# Altium schematic symbol library voltage_ref.SchLib: 25 symbols
Pins are listed as number, name and electrical type; pins without a type are passive.

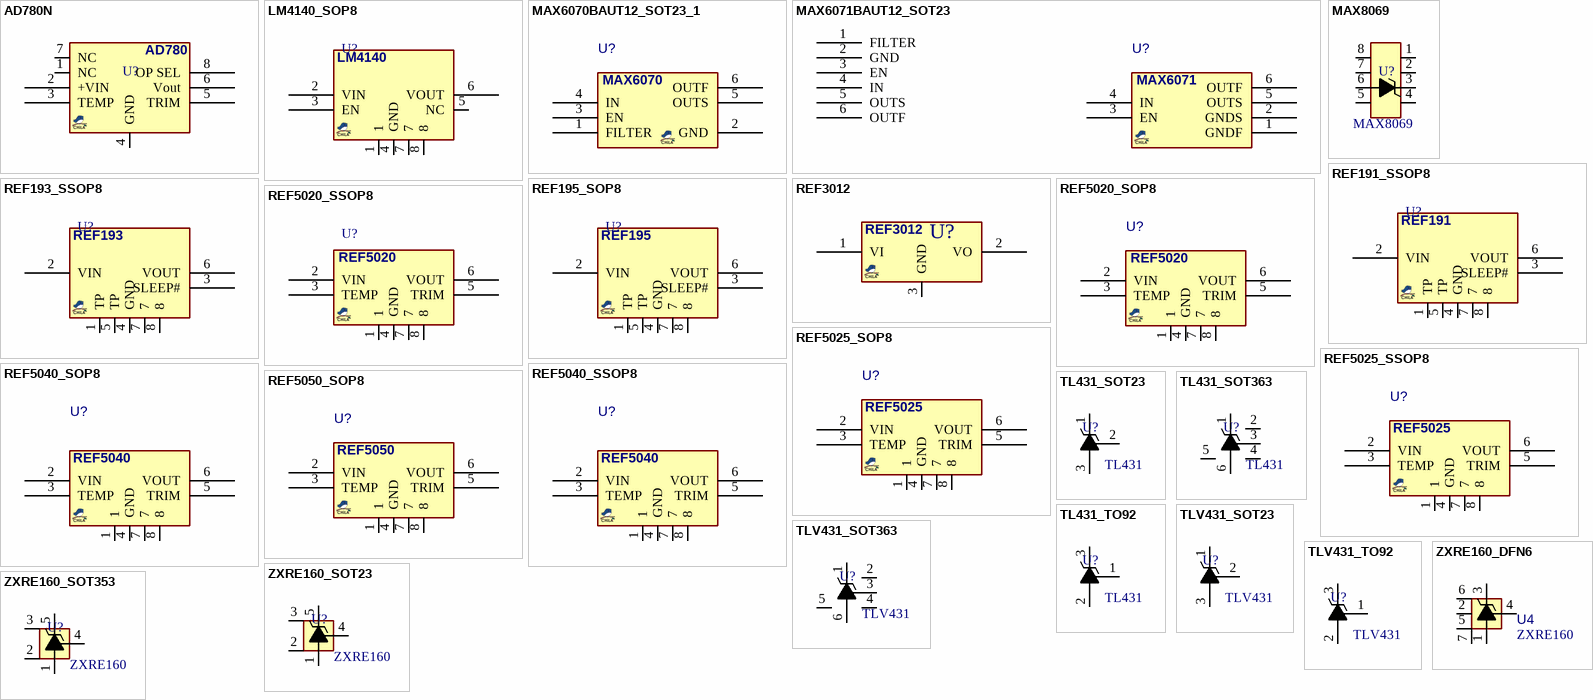
[diagram p0: symbols AD780N to ZXRE160_SOT353]

## AD780N
designator U?  (value not drawn)
VREF, 2.5 V/3.0 V High Precision; PARAM: 2.5V/3V; MANF: Analog Devices; MANF_P#: AD780ARZ-ND; VALUE: AD780N
footprint DIP_8 (DIP, pitch 2.54mm, 300mil Width)
footprint SO_8
pins: 1 NC, 2 +VIN, 3 TEMP, 4 GND, 5 TRIM, 6 Vout, 7 NC, 8 OP SEL
text: AD780

## LM4140_SOP8
designator U?, comment LM4140  (value not drawn)
VREF, 1.024V, 3ppm, 0.1%, SOP-8; MANF_P#: LM4140ACM-1.0; MANF: Texas Instruments; PARAM2: 0~70oC; PARAM: 1.024V; VALUE: LM4140
footprint SO_8 (SOP-8, 5x3.9mm body 1.27mm pitch, SOT96-1, M08A, S8, SOIC8, VO8, MS-012AA(JEDEC), R-8, 8S2, VOG8)
pins: 1 (power), 2 VIN, 3 EN, 4 GND, 5 NC, 6 VOUT, 7 (power), 8 (power)

## MAX6070BAUT12_SOT23_1
designator U?, comment MAX6070  (value not drawn)
VREF, 1.25V, 1.5ppm/°C; MANF: Maxim; PARAM: 1.25V, 1.5ppm/°C, -40~125°C; DESC: DESCRIPTION; MANF_P#: MAX6070BAUT12+T; PARAM2: 2.7~5.5Vin; ASSEMBLY: ASSEMBLY; PRICE: 2$@MOUSER; VALUE: MAX6070
footprint SOT23_6 (SOT-23-6, DDC, DBV, MICRO6, SOT-26, SOT457, SuperSOT6, TSOP-6, HMC313, MO-178AB, MO-193AA, TSOT, 1.5x3mm, Pitch 0.65mm)
pins: 1 FILTER, 2 GND, 3 EN, 4 IN, 5 OUTS, 6 OUTF
2 alternate drawings of the same symbol

## MAX6071BAUT12_SOT23
designator U?, comment MAX6071  (value not drawn)
VREF, 1.25V, 1.5ppm/°C; MANF: Maxim; PARAM: 1.25V, 1.5ppm/°C, -40~125°C; DESC: DESCRIPTION; MANF_P#: MAX6071BAUT12+T; PARAM2: 2.7~5.5Vin; ASSEMBLY: ASSEMBLY; PRICE: 2$@MOUSER; VALUE: MAX6071
footprint SOT23_6 (SOT-23-6, DDC, DBV, MICRO6, SOT-26, SOT457, SuperSOT6, TSOP-6, HMC313, MO-178AB, MO-193AA, TSOT, 1.5x3mm, Pitch 0.65mm)
pins: 1 GNDF, 1 FILTER, 2 GNDS, 2 GND, 3 EN, 3 EN, 4 IN, 4 IN, 5 OUTS, 5 OUTS, 6 OUTF, 6 OUTF
2 alternate drawings of the same symbol

## MAX8069
designator U?
VREF, 1.2V; MANF_P#: MAX8069; VALUE: MAX8069
footprint SO_8
pins: 1, 2, 3 C, 4, 5, 6 A, 7, 8

## REF191_SSOP8
designator U?, comment REF191  (value not drawn)
VREF, 2.048V, 4ppm, TSSOP-8; MANF_P#: REF191GRU; MANF: Analog Devices; VALUE: REF191
footprint SOG65_8 (PW TSSOP (TI), MO-153 (JEDEC), 8Lead, pitch: 0.65mm, 3x4.4x1.2mm)
pins: 1 TP (power), 2 VIN, 3 SLEEP#, 4 GND, 5 TP, 6 VOUT, 7 (power), 8 (power)

## REF193_SSOP8
designator U?, comment REF193  (value not drawn)
VREF, 3.0V, 4ppm, TSSOP-8; MANF_P#: REF193GRU; MANF: Analog Devices; VALUE: REF193
footprint SOG65_8 (PW TSSOP (TI), MO-153 (JEDEC), 8Lead, pitch: 0.65mm, 3x4.4x1.2mm)
pins: 1 TP (power), 2 VIN, 3 SLEEP#, 4 GND, 5 TP, 6 VOUT, 7 (power), 8 (power)

## REF195_SOP8
designator U?, comment REF195  (value not drawn)
VREF, 5V, 4ppm, SOP-8; MANF_P#: REF195ES, REF195FS, REF195GS; MANF: Analog Devices; VALUE: REF195
footprint SO_8 (SOP-8, 5x3.9mm body 1.27mm pitch, SOT96-1, M08A, S8, SOIC8, VO8, MS-012AA(JEDEC), R-8, 8S2, VOG8)
pins: 1 TP (power), 2 VIN, 3 SLEEP#, 4 GND, 5 TP, 6 VOUT, 7 (power), 8 (power)

## REF3012
designator U?  (value not drawn)
VREF, 1.2V; MANF: TEXAS INSTRUMENTS; MANF_P#: REF3012AIDBZT; VALUE: REF3012
footprint SOT23_3
pins: 1 VI, 2 VO, 3 GND

## REF5020_SOP8
designator U?, comment REF5020  (value not drawn)
VREF, 2.048V; MANF: TI; DESC: DESCRIPTION; MANF_P#: REF5020ID; ASSEMBLY: ASSEMBLY; PARAM: PARAM; PRICE: 2$@MOUSER; VALUE: REF5020
footprint SO_8
pins: 1 (power), 2 VIN, 3 TEMP, 4 GND, 5 TRIM, 6 VOUT, 7 (power), 8 (power)
2 alternate drawings of the same symbol

## REF5020_SSOP8
designator U?, comment REF5020  (value not drawn)
VREF, 2.048V, 3ppm, VSSOP-8; MANF_P#: REF5020IDGK; MANF: Texas Instruments; VALUE: REF5020
footprint SOG65_8_3 (pitch: 0.65mm, 3.0mmX3.0mm, SSOP DCT SM8 (TI), TSSOP8, MICRO8, DGK, MSOP8, RM-8, MS8, MSOP-8, usop8/8uSOP)
pins: 1 (power), 2 VIN, 3 TEMP, 4 GND, 5 TRIM, 6 VOUT, 7 (power), 8 (power)

## REF5025_SOP8
designator U?, comment REF5025  (value not drawn)
VREF, 2.5V; MANF: TI; DESC: DESCRIPTION; MANF_P#: REF5025IDR; ASSEMBLY: ASSEMBLY; PARAM: PARAM; PRICE: 6.3$@MOUSER; VALUE: REF5025
footprint SO_8
pins: 1 (power), 2 VIN, 3 TEMP, 4 GND, 5 TRIM, 6 VOUT, 7 (power), 8 (power)
2 alternate drawings of the same symbol

## REF5025_SSOP8
designator U?, comment REF5025  (value not drawn)
VREF, 2.5V; MANF: TI; DESC: DESCRIPTION; MANF_P#: REF5025AIDGK; ASSEMBLY: ASSEMBLY; PARAM: PARAM; PRICE: 3$@MOUSER; VALUE: REF5025
footprint SOG65_8_3 (pitch: 0.65mm, 3.0mmX3.0mm, SSOP DCT SM8 (TI), TSSOP8, MICRO8, DGK, MSOP8, RM-8, MS8, MSOP-8, usop8/8uSOP)
pins: 1 (power), 2 VIN, 3 TEMP, 4 GND, 5 TRIM, 6 VOUT, 7 (power), 8 (power)
2 alternate drawings of the same symbol

## REF5040_SOP8
designator U?, comment REF5040  (value not drawn)
VREF, 4.096V , 3ppm, SOP-8; MANF: Texas Instruments; PARAM: ±10mA OUT, -40~125°C; DESC: IC, VREF, 4.096V; MANF_P#: REF5040AIDR; PARAM2: 2.25~18V; ASSEMBLY: ASSEMBLY; PRICE: 3$; DIST#: -; VALUE: REF5040
footprint SO_8 (SOP-8, 5x3.9mm body 1.27mm pitch, SOT96-1, M08A, S8, SOIC8, VO8, MS-012AA(JEDEC), R-8, 8S2, VOG8)
pins: 1 (power), 2 VIN, 3 TEMP, 4 GND, 5 TRIM, 6 VOUT, 7 (power), 8 (power)

## REF5040_SSOP8
designator U?, comment REF5040  (value not drawn)
VREF, 4.096V , 3ppm, VSSOP-8; MANF: Texas Instruments; PARAM: ±10mA OUT, -40~125°C; DESC: IC, VREF, 4.096V; DIST#: MOUSER/595-REF5040IDGKT; MANF_P#: REF5040IDGKT; PARAM2: 2.25~18V; ASSEMBLY: ASSEMBLY; PRICE: 1=6.65$; VALUE: REF5040
footprint SOG65_8_3 (pitch: 0.65mm, 3.0mmX3.0mm, SSOP DCT SM8 (TI), TSSOP8, MICRO8, DGK, MSOP8, RM-8, MS8, MSOP-8, usop8/8uSOP)
pins: 1 (power), 2 VIN, 3 TEMP, 4 GND, 5 TRIM, 6 VOUT, 7 (power), 8 (power)

## REF5050_SOP8
designator U?, comment REF5050  (value not drawn)
VREF, 5V, 3 PPM, 0.05 %; MANF: TI; DESC: DESCRIPTION; MANF_P#: REF5050ID, REF5050AID, REF5050AQD; ASSEMBLY: ASSEMBLY; PARAM: 5V, 3 PPM, 0.05 %; PRICE: 3$; VALUE: REF5050
footprint SO_8
pins: 1 (power), 2 VIN, 3 TEMP, 4 GND, 5 TRIM, 6 VOUT, 7 (power), 8 (power)
2 alternate drawings of the same symbol

## TL431_SOT23
designator U?, comment TL431
VREF, Programmable Precision; MANF_P#: TL431_SOT23; VALUE: TL431
footprint SOT23_3 (SOT-23, Micro3, MO-178, TO-236AB, MO-193C, SuperSOT3, SC-59, DSO190_3_300X150)
pins: 1 K, 2 REF, 3 A

## TL431_SOT363
designator U?, comment TL431
VREF, Programmable Precision; MANF: Texas Instruments, Diodes; MANF_P#: TL431BIDCK, ZTL431AH6TA; PRICE: 0.5$; VALUE: TL431
footprint SOT363_6 (SOT-363, SC-70-6, DCK, BFS483, SC-88, MO-203AB, DSO65_6_200X130)
pins: 1 K, 2 NC, 3 REF, 4 NC, 5 NC, 6 A

## TL431_TO92
designator U?, comment TL431
VREF, Programmable Precision; MANF_P#: TL431_TO92; VALUE: TL431
footprint TO92_3 (TO-92)
pins: 1 REF, 2 A, 3 K

## TLV431_SOT23
designator U?, comment TLV431
VREF, Programmable Precision; DESC: TLV431BSN1T1G, TLV431AIDBZ, TLV431BIDBZ, TLV431ACDBZ, ZTLV431AFTA, TLV431ASN1T1G, TLV431IDBZ, TLV431BQDBZ, TLV431BCDBZ, TLV431TFTA, TLV431CDBZ; MANF: Texas Instruments, Diodes, ON; MANF_P#: TLV431AQFTA, TLV431BQFTA, TLV431BQDBZRQ1; PARAM2: 1.24VREF, 1.24~18VAK; PRICE: 0.5$; VALUE: TLV431
footprint SOT23_3 (SOT-23, Micro3, MO-178, TO-236AB, MO-193C, SuperSOT3, SC-59, 1.9mm pitch 3X1.5mm body)
pins: 1 K, 2 REF, 3 A

## TLV431_SOT363
designator U?, comment TLV431
VREF, Programmable Precision; DESC: TLV431AH6TA, TLV431BH6TA; MANF: Texas Instruments, Diodes; MANF_P#: TLV431BCDCK, TLV431BIDCK, TLV431BQDCK; PARAM2: 1.24VREF, 1.24~18VAK; PRICE: 0.8$; VALUE: TLV431
footprint SOT363_6 (SOT-363, SC-70-6, DCK, BFS483, SC-88, MO-203AB, DSO65_6_200X130)
pins: 1 K, 2 NC, 3 REF, 4 NC, 5 NC, 6 A

## TLV431_TO92
designator U?, comment TLV431
VREF, Programmable Precision; MANF: Texas Instruments, ON; MANF_P#: TLV431BILP, TLV431ALPRAG, TLV431BILP; PARAM2: 1.24VREF, 1.24~18VAK; PRICE: 0.8$; VALUE: TLV431
footprint TO92_3 (TO-92, SOT54)
pins: 1 REF, 2 A, 3 K

## ZXRE160_DFN6
designator U4, comment ZXRE160
VREF, Programmable Precision, 0.6VFB; MANF: Diodes; MANF_P#: ZXRE160FT4-7; PARAM2: 2~18VIN, 0.6VFB; PARAM: -40~125°C; PRICE: 0.7$; VALUE: ZXRE160
footprint SON50_6T_1520 (X2-DFN1520-6,  6-Lead DFN Pitch: 0.5mm 1.5x2x0.8mm)
pins: 1 PGND, 2 NC, 3 OUT, 4 FB, 5 GND, 6 IN, 7

## ZXRE160_SOT23
designator U?, comment ZXRE160
VREF, Programmable Precision, 0.6VFB; MANF: Diodes; MANF_P#: ZXRE160ET5TA; PARAM2: 2~18VIN, 0.6VFB; PARAM: -40~125°C; PRICE: 0.7$; VALUE: ZXRE160
footprint SOT23_5 (SOT-23-5, SOT25, SOT-25, DBV(R-PDSO-G5), SOT753, TSOT23-5, SC-74A, SOT23-5, S5-T (LINEAR), MO-178AA, MO-193AB(JEDEC), MF05A (NS), TSOP-5(ON), UJ-5 (AD), 0.95mm pitch 3X1.5mm)
pins: 1 PGND, 2 GND, 3 IN, 4 FB, 5 OUT

## ZXRE160_SOT353
designator U?, comment ZXRE160
VREF, Programmable Precision, 0.6VFB; MANF: Diodes; MANF_P#: ZXRE160H5TA; PARAM2: 2~18VIN, 0.6VFB; PARAM: -40~125°C; PRICE: 0.7$; VALUE: ZXRE160
footprint SOT353_5 (SC-88A, SC70-5, TSSOP5, SOT-353, DCK (TI), 0.65mm pitch 2X1.3mm body)
pins: 1 PGND, 2 GND, 3 IN, 4 FB, 5 OUT